# EAGLE library part ADAFRUIT_CC3000_WIFI (library LEDCyrWheel)
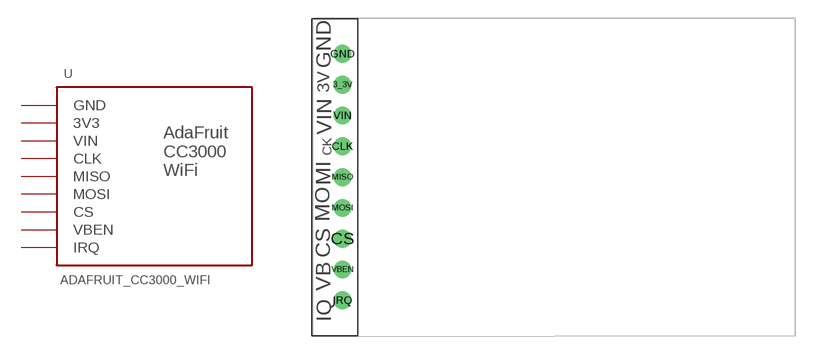
[diagram p1: symbol with the pads of ADAFRUIT_CC3000_WIFI; footprint ADAFRUIT_CC3000_WIFI]

Designator prefix -

## ADAFRUIT_CC3000_WIFI  [ADAFRUIT_CC3000_WIFI]
3_3V  3V3  pwr
CLK  CLK
CS  CS
GND  GND  pwr
IRQ  IRQ
MISO  MISO
MOSI  MOSI
VBEN  VBEN
VIN  VIN  pwr

## Footprint ADAFRUIT_CC3000_WIFI (pad centres in mm)
drill 0.965: 3_3V -13.97,8.001; CLK -13.97,2.921; CS -13.97,-4.699; GND -13.97,10.541; IRQ -13.97,-9.779; MISO -13.97,0.381; MOSI -13.97,-2.159; VBEN -13.97,-7.239; VIN -13.97,5.461